# Altium footprint library 贴片.PcbLib: 161 footprints (part 3 of 11)
Each footprint in its own frame and in the unit in brackets; x right, y up, seen from the top. Pads: shape width x height; smd on the part's side, far side on the other; paste and mask are expansions set on the pad; w line width, h text height; cw(c..) or ccw(c..) is an arc to the next point about the centre after c.
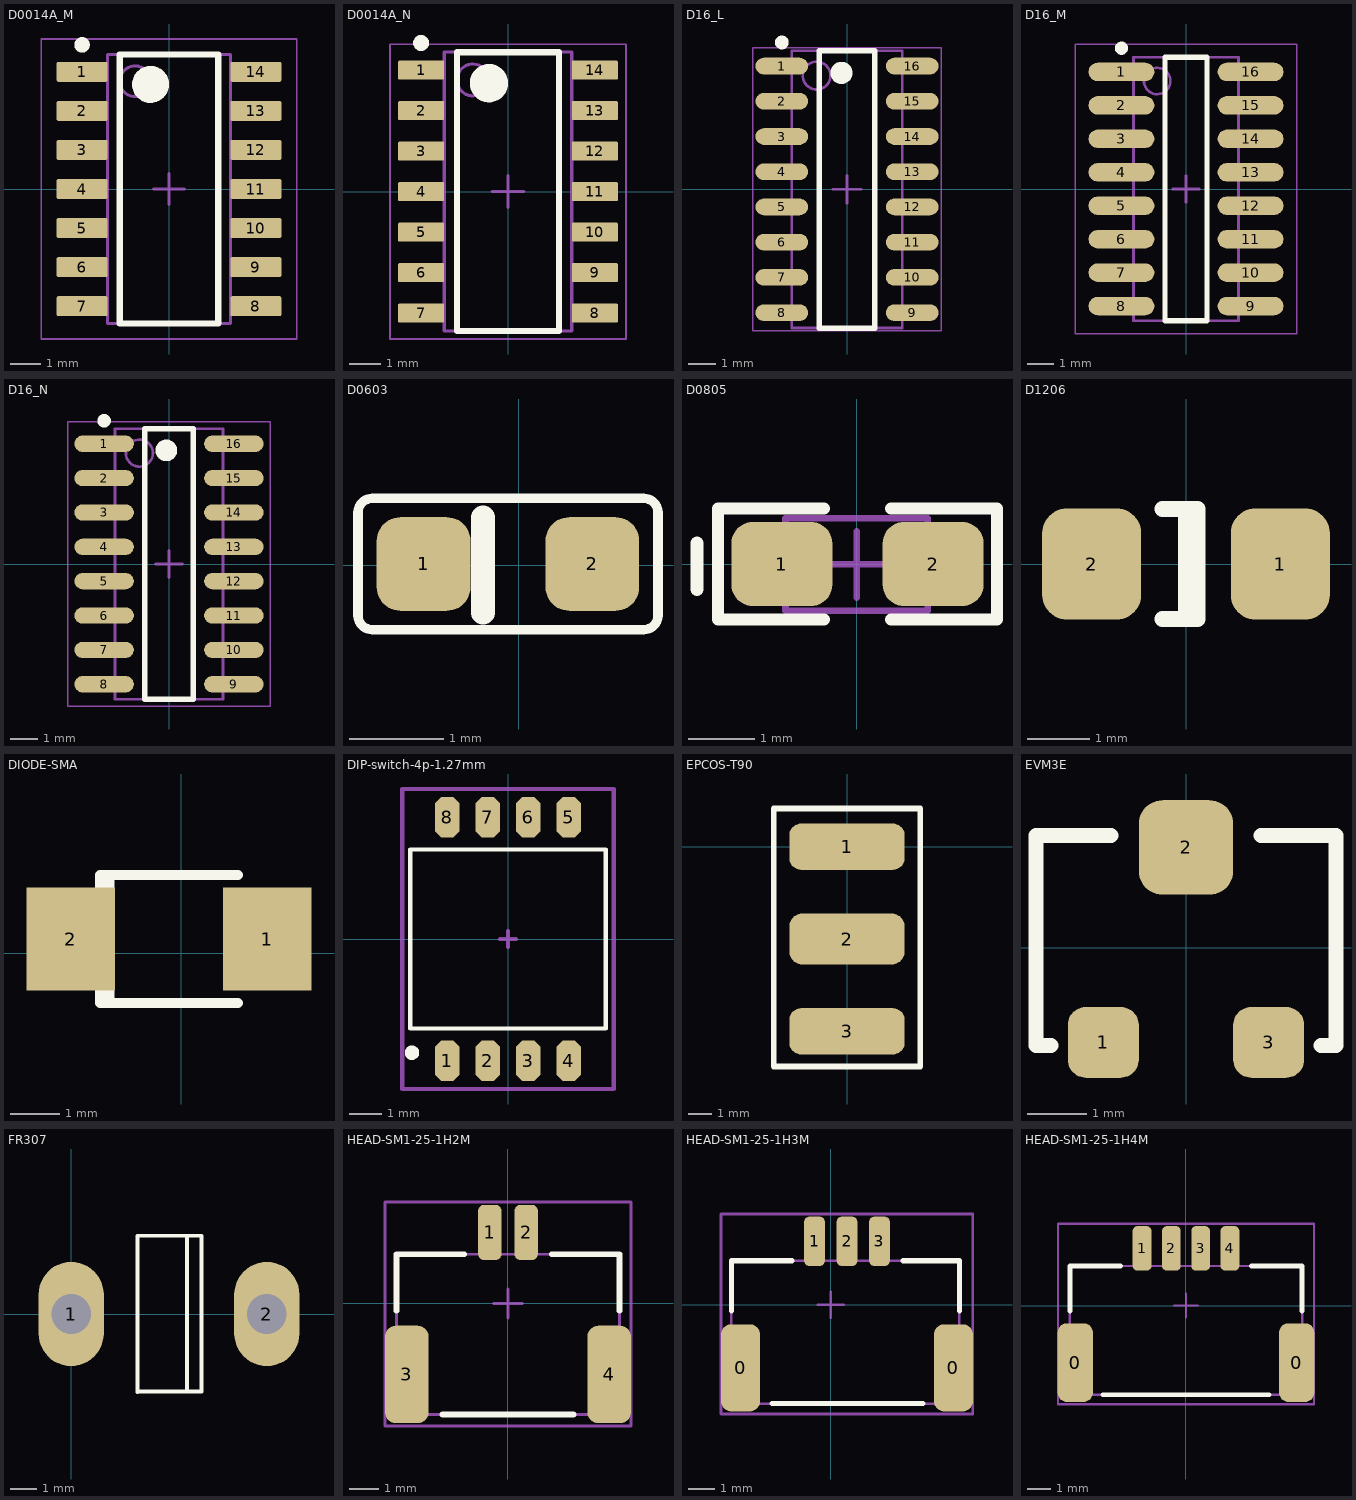
[diagram p2: the footprints below, top view; thin cyan lines are the x and y axes]

## D0014A_M [mm] "SOIC, 14-Leads, Body 8.75x4mm, Pitch 1.27mm, IPC Low Density"
height 1.75
pads (14):
  rrect15% 1.65x0.65 smd: 1(-2.825,3.81) 2(-2.825,2.54) 3(-2.825,1.27) 4(-2.825,0) 5(-2.825,-1.27) 6(-2.825,-2.54) 7(-2.825,-3.81) 8(2.825,-3.81) 9(2.825,-2.54) 10(2.825,-1.27) 11(2.825,0) 12(2.825,1.27) 13(2.825,2.54) 14(2.825,3.81)
Top Overlay:
  circle w0.6: c-0.6,3.4 r0.3
  circle w0.25: c-2.825,4.685 r0.125
  lines w0.2: -1.6,-4.375 1.6,-4.375 1.6,4.375 -1.6,4.375 -1.6,-4.375
Mechanical 1:
  text ".Designator" at -1.575,-0.325 h0.8
Mechanical 13:
  circle w0.1: c-1.1,3.5 r0.5
  lines w0.1: -2,-4.375 2,-4.375 2,4.375 -2,4.375 -2,-4.375
Mechanical 15:
  lines w0.05: -4.15,-4.875 4.15,-4.875 4.15,4.875 -4.15,4.875 -4.15,-4.875
  lines w0.1: -0.5,0 0.5,0 ; 0,-0.5 0,0.5
3D body: height 1.59, standoff -0.01, extent -3.023,-4.318 3.022,4.318

## D0014A_N [mm] "SOIC, 14-Leads, Body 8.75x4mm, Pitch 1.27mm, IPC Medium Density"
height 1.75
pads (14):
  rrect17% 1.45x0.6 smd: 1(-2.725,3.81) 2(-2.725,2.54) 3(-2.725,1.27) 4(-2.725,0) 5(-2.725,-1.27) 6(-2.725,-2.54) 7(-2.725,-3.81) 8(2.725,-3.81) 9(2.725,-2.54) 10(2.725,-1.27) 11(2.725,0) 12(2.725,1.27) 13(2.725,2.54) 14(2.725,3.81)
Top Overlay:
  circle w0.25: c-2.725,4.66 r0.125
  circle w0.6: c-0.6,3.4 r0.3
  lines w0.2: -1.6,-4.375 -1.6,4.375 1.6,4.375 1.6,-4.375 -1.6,-4.375
Mechanical 1:
  text ".Designator" at -1.575,-0.35 h0.8
Mechanical 13:
  circle w0.1: c-1.1,3.5 r0.5
  lines w0.1: -2,-4.375 -2,4.375 2,4.375 2,-4.375 -2,-4.375
Mechanical 15:
  lines w0.05: -3.7,-4.625 -3.7,4.625 3.7,4.625 3.7,-4.625 -3.7,-4.625
  lines w0.1: -0.5,0 0.5,0 ; 0,-0.5 0,0.5
3D body: height 1.59, standoff -0.01, extent -3.023,-4.318 3.022,4.318

## D16_L [mm] "SOIC, 16-Leads, Body 9.9x3.9mm, Pitch 1.27mm, IPC High Density"
height 1.75
pads (16):
  oval 1.9x0.6 smd: 1(-2.35,4.445) 2(-2.35,3.175) 3(-2.35,1.905) 4(-2.35,0.635) 5(-2.35,-0.635) 6(-2.35,-1.905) 7(-2.35,-3.175) 8(-2.35,-4.445) 9(2.35,-4.445) 10(2.35,-3.175) 11(2.35,-1.905) 12(2.35,-0.635) 13(2.35,0.635) 14(2.35,1.905) 15(2.35,3.175) 16(2.35,4.445)
Top Overlay:
  circle w0.4: c-0.2,4.2 r0.2
  circle w0.25: c-2.35,5.295 r0.125
  lines w0.2: -1,-5 1,-5 1,5 -1,5 -1,-5
Mechanical 13:
  circle w0.1: c-1.095,4.1 r0.5
  lines w0.1: -1.995,-5 1.995,-5 1.995,5 -1.995,5 -1.995,-5
Mechanical 15:
  lines w0.05: -3.4,-5.1 3.4,-5.1 3.4,5.1 -3.4,5.1 -3.4,-5.1
  lines w0.1: -0.5,0 0.5,0 ; 0,-0.5 0,0.5
3D body: height 1.75, standoff 0.1, extent -1.995,-5 1.995,5

## D16_M [mm] "SOIC, 16-Leads, Body 9.9x3.9mm, Pitch 1.27mm, IPC Low Density"
height 1.75
pads (16):
  oval 2.5x0.7 smd: 1(-2.45,4.445) 2(-2.45,3.175) 3(-2.45,1.905) 4(-2.45,0.635) 5(-2.45,-0.635) 6(-2.45,-1.905) 7(-2.45,-3.175) 8(-2.45,-4.445) 9(2.45,-4.445) 10(2.45,-3.175) 11(2.45,-1.905) 12(2.45,-0.635) 13(2.45,0.635) 14(2.45,1.905) 15(2.45,3.175) 16(2.45,4.445)
Top Overlay:
  circle w0.25: c-2.45,5.345 r0.125
  lines w0.2: -0.8,-5 -0.8,5 0.8,5 0.8,-5 -0.8,-5
Mechanical 13:
  circle w0.1: c-1.095,4.1 r0.5
  lines w0.1: -1.995,-5 -1.995,5 1.995,5 1.995,-5 -1.995,-5
Mechanical 15:
  lines w0.05: -4.2,-5.5 -4.2,5.5 4.2,5.5 4.2,-5.5 -4.2,-5.5
  lines w0.1: -0.5,0 0.5,0 ; 0,-0.5 0,0.5
3D body: height 1.75, standoff 0.1, extent -1.995,-5 1.995,5

## D16_N [mm] "SOIC, 16-Leads, Body 9.9x3.9mm, Pitch 1.27mm, IPC Medium Density"
height 1.75
pads (16):
  oval 2.2x0.6 smd: 1(-2.4,4.445) 2(-2.4,3.175) 3(-2.4,1.905) 4(-2.4,0.635) 5(-2.4,-0.635) 6(-2.4,-1.905) 7(-2.4,-3.175) 8(-2.4,-4.445) 9(2.4,-4.445) 10(2.4,-3.175) 11(2.4,-1.905) 12(2.4,-0.635) 13(2.4,0.635) 14(2.4,1.905) 15(2.4,3.175) 16(2.4,4.445)
Top Overlay:
  circle w0.4: c-0.1,4.2 r0.2
  circle w0.25: c-2.4,5.295 r0.125
  lines w0.2: -0.9,-5 0.9,-5 0.9,5 -0.9,5 -0.9,-5
Mechanical 13:
  circle w0.1: c-1.095,4.1 r0.5
  lines w0.1: -1.995,-5 1.995,-5 1.995,5 -1.995,5 -1.995,-5
Mechanical 15:
  lines w0.05: -3.75,-5.25 3.75,-5.25 3.75,5.25 -3.75,5.25 -3.75,-5.25
  lines w0.1: -0.5,0 0.5,0 ; 0,-0.5 0,0.5
3D body: height 1.75, standoff 0.1, extent -1.995,-5 1.995,5

## D0603 [mm]
pads (2):
  rrect50% 1x1 smd: 1(-1.015,0.012) 2(0.785,0.012)
Top Overlay:
  lines w0.1: -1.715,-0.538 ccw(c-1.565,-0.538) -1.565,-0.688 ; -1.715,0.562 cw(c-1.565,0.562) -1.565,0.712 ; 1.335,-0.688 ccw(c1.335,-0.538) 1.485,-0.538 ; 1.335,0.712 cw(c1.335,0.562) 1.485,0.562
  lines w0.102: -1.715,-0.538 -1.715,0.562 ; -1.565,-0.688 1.335,-0.688 ; -1.565,0.712 1.335,0.712 ; 1.485,-0.538 1.485,0.562
  lines w0.254: -0.381,-0.508 -0.381,0.508

## D0805 [mil]
pads (2):
  rrect50% 60x50 smd: 1(-44.49,0.24) 2(45.51,0.24)
Top Overlay:
  lines w7: -19.49,-32.76 -82.49,-32.76 -82.49,33.24 -19.49,33.24 ; 20.51,-32.76 83.51,-32.76 83.51,33.24 20.51,33.24
  lines w7.87: -95,-15 -95,12.56
Mechanical 13:
  lines w3.94: -42.32,-27.56 42.32,-27.56 42.32,27.56 -42.32,27.56 -42.32,-27.56
Mechanical 15:
  lines w3.94: -19.68,0 19.69,0 ; 0,-19.68 0,19.69
3D body: height 27.56, standoff 0, extent -42.32,-27.56 42.32,27.56

## D1206 [mm]
pads (2):
  rrect50% 1.6x1.8 smd: 1(1.524,0) 2(-1.524,0)
Top Overlay:
  lines w0.254: -0.381,-0.889 0.191,-0.889 0.191,0.889 -0.381,0.889 ; 0,-0.889 0,0.889

## DIODE-SMA [mm]
height 1.45
pads (2):
  rect 1.8x2.1 smd: 1(1.748,0.289) 2(-2.252,0.289)
Top Overlay:
  lines w0.2: -1.462,-1.011 -1.462,1.589 ; 1.148,-1.011 -1.652,-1.011 -1.652,1.589 1.148,1.589
3D body: height 2.1, standoff -0.2, extent -2.868,-1.108 2.332,1.792

## DIP-switch-4p-1.27mm [mm]
pads (8):
  oct 0.76x1.27 smd: 1(-1.905,-3.81) 2(-0.635,-3.81) 3(0.635,-3.81) 4(1.905,-3.81) 5(1.905,3.81) 6(0.635,3.81) 7(-0.635,3.81) 8(-1.905,3.81)
Top Overlay:
  circle w0.25: c-3.005,-3.56 r0.1
  lines w0.127: -3.06,-2.8 3.06,-2.8 3.06,2.8 -3.06,2.8 -3.06,-2.8
Mechanical 15:
  lines w0.127: -0.254,0 0.254,0 ; 0,-0.254 0,0.254 ; -3.31,-4.695 3.31,-4.695 3.31,4.695 -3.31,4.695 -3.31,-4.695
3D body: height 2.06, standoff -0.04, extent -3.06,-4 3.06,4

## EPCOS-T90 [mm]
pads (3):
  rrect50% 5x2 smd: 1(0,0) 3(0,-8)
  rrect50% 5x2.2 smd: 2(0,-4)
Top Overlay:
  lines w0.254: -3.175,-9.525 -3.175,1.651 3.175,1.651 3.175,-9.525 -3.175,-9.525

## EVM3E [mm] "贴片电位器EVM3ESX50B14"
pads (3):
  rrect50% 1.2x1.2 smd: 1(-1.4,-1.6) 3(1.4,-1.6)
  rrect50% 1.6x1.6 smd: 2(0,1.7)
Top Overlay:
  lines w0.254: -2.286,-1.651 -2.54,-1.651 -2.54,1.905 -1.27,1.905 ; 1.27,1.905 2.54,1.905 2.54,-1.651 2.286,-1.651

## FR307 [mm]
pads (2):
  oval 2.5x4 hole 1.524: 1(0,0) 2(7.5,0)
Top Overlay:
  lines w0.15: 2.54,-3 2.54,3 5.001,3 5.001,-2.969 2.571,-2.969 ; 4.445,-2.969 4.445,3

## HEAD-SM1-25-1H2M [mm] "Header, Wire-to-Board, SMT, Horizontal, 1-Row, Pitch 1.25mm, 2-Position"
pads (4):
  rrect50% 0.8x1.9 smd: 1(-0.625,2.438) 2(0.625,2.438)
  rrect50% 1.5x3.35 smd: 3(-3.475,-2.437) 4(3.475,-2.437)
Top Overlay:
  lines w0.2: -3.825,-0.25 -3.825,1.688 -1.5,1.688 ; -2.25,-3.812 2.25,-3.812 ; 1.5,1.688 3.825,1.688 3.825,-0.25
Mechanical 13:
  lines w0.1: -3.825,-3.812 3.825,-3.812 3.825,1.688 -3.825,1.688 -3.825,-3.812
Mechanical 15:
  lines w0.1: -0.5,0 0.5,0 ; 0,-0.5 0,0.5 ; -4.225,-4.212 4.225,-4.212 4.225,3.488 -4.225,3.488 -4.225,-4.212
3D body: height 1.92, standoff 0.02, extent -3.82,-3.8 3.83,2.7

## HEAD-SM1-25-1H3M [mm] "Header, Wire-to-Board, SMT, Horizontal, 1-Row, Pitch 1.25mm, 2-Position"
pads (5):
  rrect50% 1.5x3.35 smd: 0(-3.475,-2.437) 0(4.725,-2.437)
  rrect50% 0.8x1.9 smd: 1(-0.625,2.438) 2(0.625,2.438) 3(1.875,2.438)
Top Overlay:
  lines w0.2: -3.825,-0.25 -3.825,1.688 -1.5,1.688 ; -2.25,-3.812 3.556,-3.81 ; 2.794,1.688 4.953,1.688 4.953,-0.25
Mechanical 13:
  lines w0.1: -3.825,-3.812 4.953,-3.812 4.953,1.688 -3.825,1.688 -3.825,-3.812
Mechanical 15:
  lines w0.1: -0.5,0 0.5,0 ; 0,-0.5 0,0.5 ; -4.225,-4.212 5.461,-4.212 5.461,3.488 -4.225,3.488 -4.225,-4.212

## HEAD-SM1-25-1H4M [mm] "Header, Wire-to-Board, SMT, Horizontal, 1-Row, Pitch 1.25mm, 2-Position"
pads (6):
  rrect50% 1.5x3.35 smd: 0(-4.725,-2.437) 0(4.725,-2.437)
  rrect50% 0.8x1.9 smd: 1(-1.875,2.438) 2(-0.625,2.438) 3(0.625,2.438) 4(1.875,2.438)
Top Overlay:
  lines w0.2: -4.953,-0.25 -4.953,1.688 -2.794,1.688 ; -3.556,-3.81 3.556,-3.81 ; 2.794,1.688 4.953,1.688 4.953,-0.25
Mechanical 13:
  lines w0.1: -4.953,-3.812 -4.953,1.688 4.953,1.688 4.953,-3.812 -4.953,-3.812
Mechanical 15:
  lines w0.1: -0.5,0 0.5,0 ; 0,-0.5 0,0.5 ; -5.461,-4.212 -5.461,3.488 5.461,3.488 5.461,-4.212 -5.461,-4.212